# Altium footprint library CHIP_1206_ARR.PcbLib: 1 footprints
Each footprint in its own frame and in the unit in brackets; x right, y up, seen from the top. Pads: shape width x height; smd on the part's side, far side on the other; paste and mask are expansions set on the pad; w line width, h text height; cw(c..) or ccw(c..) is an arc to the next point about the centre after c.
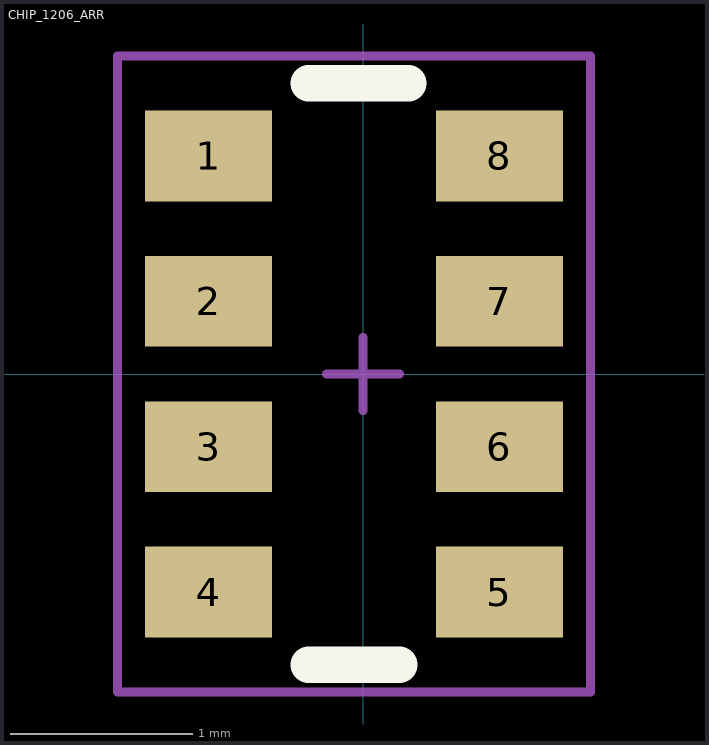
[diagram p0: the footprint, top view; thin cyan lines are the x and y axes]

## CHIP_1206_ARR [mm] "4 element array"
pads (8):
  rect 0.7x0.5 smd mask+0.062: 1(-0.85,1.2) 2(-0.85,0.4) 3(-0.85,-0.4) 4(-0.85,-1.2) 5(0.75,-1.2) 6(0.75,-0.4) 7(0.75,0.4) 8(0.75,1.2)
Top Overlay:
  lines w0.2: -0.3,-1.6 0.2,-1.6 ; -0.3,1.6 0.25,1.6
Mechanical 15:
  lines w0.05: -0.2,0 0.2,0 ; 0,-0.2 0,0.2 ; -1.35,-1.75 1.25,-1.75 1.25,1.75 -1.35,1.75 -1.35,-1.75
3D body: height 0.53, standoff 0, extent -0.85,-1.6 0.75,1.6